# EAGLE library part KSZ8041NLI (library serial_interfaces)
10Base-T/100Base-TX Physical Layer Transceiver
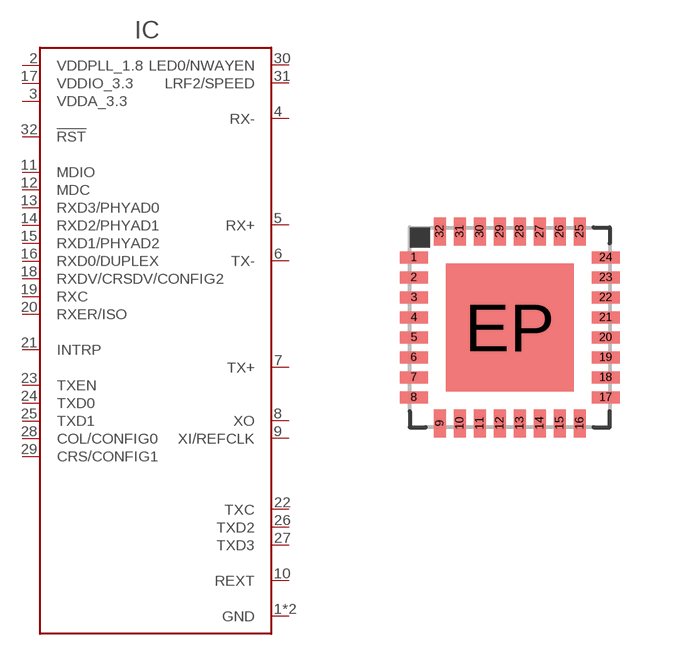
[diagram p29: symbol with the pads of QFN32(5X5); footprint QFN32(5X5)]

Designator prefix IC

## KSZ8041NLI (MANF: Micrel; MANF#: KSZ8041NL)  [QFN32(5X5)]
1  GND
2  VDDPLL_1.8
3  VDDA_3.3
4  RX-
5  RX+
6  TX-
7  TX+
8  XO
9  XI/REFCLK
10  REXT
11  MDIO
12  MDC
13  RXD3/PHYAD0
14  RXD2/PHYAD1
15  RXD1/PHYAD2
16  RXD0/DUPLEX
17  VDDIO_3.3
18  RXDV/CRSDV/CONFIG2
19  RXC
20  RXER/ISO
21  INTRP
22  TXC
23  TXEN
24  TXD0
25  TXD1
26  TXD2
27  TXD3
28  COL/CONFIG0
29  CRS/CONFIG1
30  LED0/NWAYEN
31  LRF2/SPEED
32  !RST
EP  GND

## Footprint QFN32(5X5) (pad centres in mm)
Drawing <https://www.trinamic.com/fileadmin/assets/Support/AppNotes/AN005g-IC_Package_PCB_Footprint_Guidelines_QFN32_5x5_rev2.12.pdf>
smd 0.7 x 0.3: 1 -2.4,1.75; 2 -2.4,1.25; 3 -2.4,0.75; 4 -2.4,0.25; 5 -2.4,-0.25; 6 -2.4,-0.75; 7 -2.4,-1.25; 8 -2.4,-1.75; 17 2.4,-1.75; 18 2.4,-1.25; 19 2.4,-0.75; 20 2.4,-0.25; 21 2.4,0.25; 22 2.4,0.75; 23 2.4,1.25; 24 2.4,1.75
smd 0.3 x 0.7: 9 -1.75,-2.4; 10 -1.25,-2.4; 11 -0.75,-2.4; 12 -0.25,-2.4; 13 0.25,-2.4; 14 0.75,-2.4; 15 1.25,-2.4; 16 1.75,-2.4; 25 1.75,2.4; 26 1.25,2.4; 27 0.75,2.4; 28 0.25,2.4; 29 -0.25,2.4; 30 -0.75,2.4; 31 -1.25,2.4; 32 -1.75,2.4
smd 3.2 x 3.2: EP 0,0